# EAGLE library part FH12-10S-0.5S (library con-hirose)
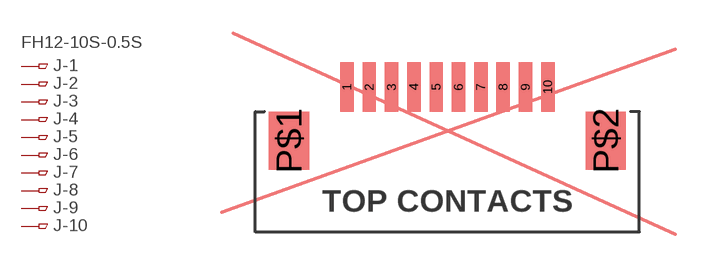
[diagram p0: symbol with the pads of CON-FPC-1.0MM-10POS; footprint CON-FPC-1.0MM-10POS]

Designator prefix J; gates -1=PINV -2=PIN -3=PIN -4=PIN -5=PIN -6=PIN -7=PIN -8=PIN -9=PIN -10=PIN

## FH12-10S-0.5S1.00MM  [CON-FPC-1.0MM-10POS]
1  -1:1  pas
2  -2:1  pas
3  -3:1  pas
4  -4:1  pas
5  -5:1  pas
6  -6:1  pas
7  -7:1  pas
8  -8:1  pas
9  -9:1  pas
10  -10:1  pas

## Footprint CON-FPC-1.0MM-10POS (pad centres in mm)
smd 0.6 x 2.2: 1 -4.5,0; 2 -3.5,0; 3 -2.5,0; 4 -1.5,0; 5 -0.5,0; 6 0.5,0; 7 1.5,0; 8 2.5,0; 9 3.5,0; 10 4.5,0
smd 1.8 x 2.6: P$1 -7.1,-2.4; P$2 7.1,-2.4